# EAGLE library part HDSP4831 (library OPTO)
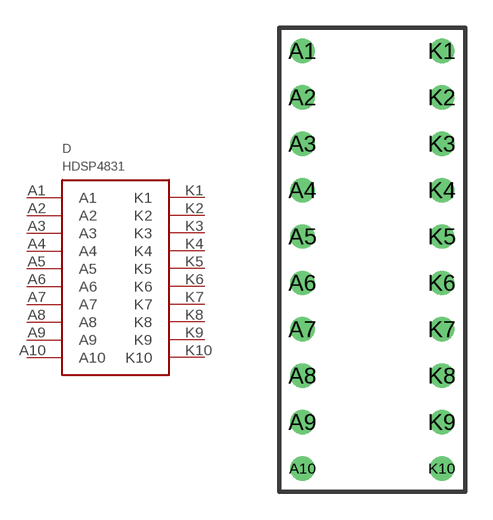
[diagram p1: symbol with the pads of HDSP4832; footprint HDSP4832]

Designator prefix D

## HDSP4831  [HDSP4832]
A1  A1
A2  A2
A3  A3
A4  A4
A5  A5
A6  A6
A7  A7
A8  A8
A9  A9
A10  A10
K1  K1
K2  K2
K3  K3
K4  K4
K5  K5
K6  K6
K7  K7
K8  K8
K9  K9
K10  K10

## Footprint HDSP4832 (pad centres in mm)
drill 0.8: A1 -3.75,11.25; A2 -3.75,8.75; A3 -3.75,6.25; A4 -3.75,3.75; A5 -3.75,1.25; A6 -3.75,-1.25; A7 -3.75,-3.75; A8 -3.75,-6.25; A9 -3.75,-8.75; A10 -3.75,-11.25; K1 3.75,11.25; K2 3.75,8.75; K3 3.75,6.25; K4 3.75,3.75; K5 3.75,1.25; K6 3.75,-1.25; K7 3.75,-3.75; K8 3.75,-6.25; K9 3.75,-8.75; K10 3.75,-11.25